# EAGLE library part LT1712 (library lbm)
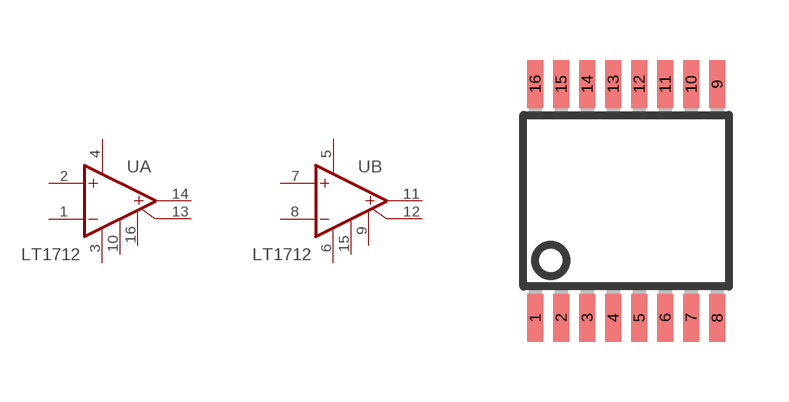
[diagram p30: symbol with the pads of SSOP16; footprint SSOP16]

Designator prefix -; gates A=LT711A B=LT711A

## LT1712  [SSOP16]
1  A:IN-  in
2  A:IN+  in
3  A:V-  pwr
4  A:V+  pwr
5  B:V+  pwr
6  B:V-  pwr
7  B:IN+  in
8  B:IN-  in
9  B:LO  pas
10  A:GND  pas
11  B:OUT  out
12  B:OUT/  pas
13  A:OUT/  pas
14  A:OUT  out
15  B:GND  pas
16  A:LO  pas

## Footprint SSOP16 (pad centres in mm)
smd 0.4 x 1.2: 1 -2.275,-2.925; 2 -1.625,-2.925; 3 -0.975,-2.925; 4 -0.325,-2.925; 5 0.325,-2.925; 6 0.975,-2.925; 7 1.625,-2.925; 8 2.275,-2.925; 9 2.275,2.925; 10 1.625,2.925; 11 0.975,2.925; 12 0.325,2.925; 13 -0.325,2.925; 14 -0.975,2.925; 15 -1.625,2.925; 16 -2.275,2.925